# EAGLE library part IN-12 (library TimeExpander)
Soviet IN-12 Nixie
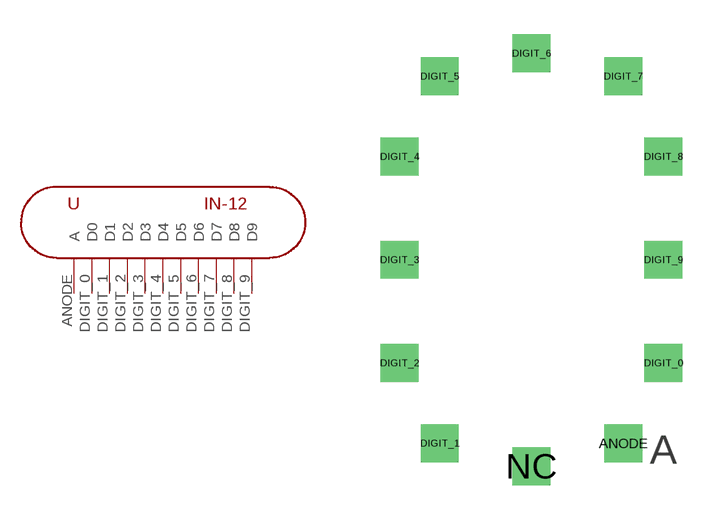
[diagram p0: symbol with the pads of IN-12; footprint IN-12]

Designator prefix -

## IN-12 (VALUE: IN-12)  [IN-12]
ANODE  A
DIGIT_0  D0
DIGIT_1  D1
DIGIT_2  D2
DIGIT_3  D3
DIGIT_4  D4
DIGIT_5  D5
DIGIT_6  D6
DIGIT_7  D7
DIGIT_8  D8
DIGIT_9  D9

## Footprint IN-12 (pad centres in mm)
IN-12
drill 1.1 square: ANODE 4,-8; DIGIT_0 5.75,-4.5; DIGIT_1 -4,-8; DIGIT_2 -5.75,-4.5; DIGIT_3 -5.75,0; DIGIT_4 -5.75,4.5; DIGIT_5 -4,8; DIGIT_6 0,9; DIGIT_7 4,8; DIGIT_8 5.75,4.5; DIGIT_9 5.75,0; NC 0,-9